# Altium schematic symbol library AP2112K-3.SCHLIB: 1 symbol
Pins are listed as number, name and electrical type; pins without a type are passive.

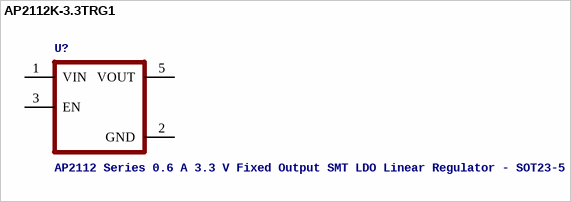
[diagram p0: symbol AP2112K-3.3TRG1]

## AP2112K-3.3TRG1
designator U?, comment AP2112 Series 0.6 A 3.3 V Fixed Output SMT LDO Linear Regulator - SOT23-5
GateName_1: G$1; SymbolName_1: AP2112K-3.3TRG1; Description: Linear Voltage Regulator IC 1 Output 600mA SOT-25; MF: Diodes Inc.; LibraryName: AP2112K-3.3TRG1; DeviceSetName: AP2112K-3.3TRG1; MP: AP2112K-3.3TRG1; Package: SOT-753 Diodes Inc.; Digi-Key_Part_Number: AP2112K-3.3TRG1DICT-ND
footprint SOT95P285X140-5N
pins: 1 VIN (power), 2 GND (power), 3 EN, 5 VOUT (power)